# EAGLE library part TLV61220 (library tlv61220)
Texas Instruments: TLV61220 Low-Input Voltage Step-Up Converter in Thin SOT-23 Package
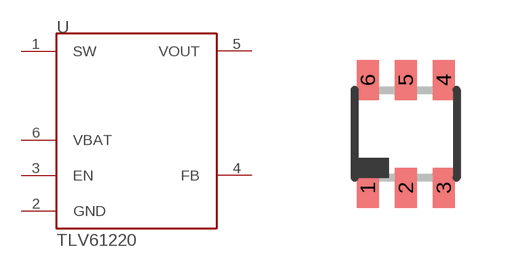
[diagram p0: symbol with the pads of DCK_R-PDSO-G5; footprint DCK_R-PDSO-G5]

Designator prefix U

## TLV61220  [DCK_R-PDSO-G5]
1  SW
2  GND
3  EN
4  FB
5  VOUT
6  VBAT

## Footprint DCK_R-PDSO-G5 (pad centres in mm)
DCK (R-PDSO-G5) SC-70 Source: http://focus.ti.com/lit/ds/slcs146e/slcs146e.pdf
smd 0.55 x 1: 1 -0.95,-1.35; 2 0,-1.35; 3 0.95,-1.35; 4 0.95,1.35; 5 0,1.35; 6 -0.95,1.35